# Altium schematic symbol library WCAP-PT5H.SchLib: 25 symbols
Pins are listed as number, name and electrical type; pins without a type are passive.

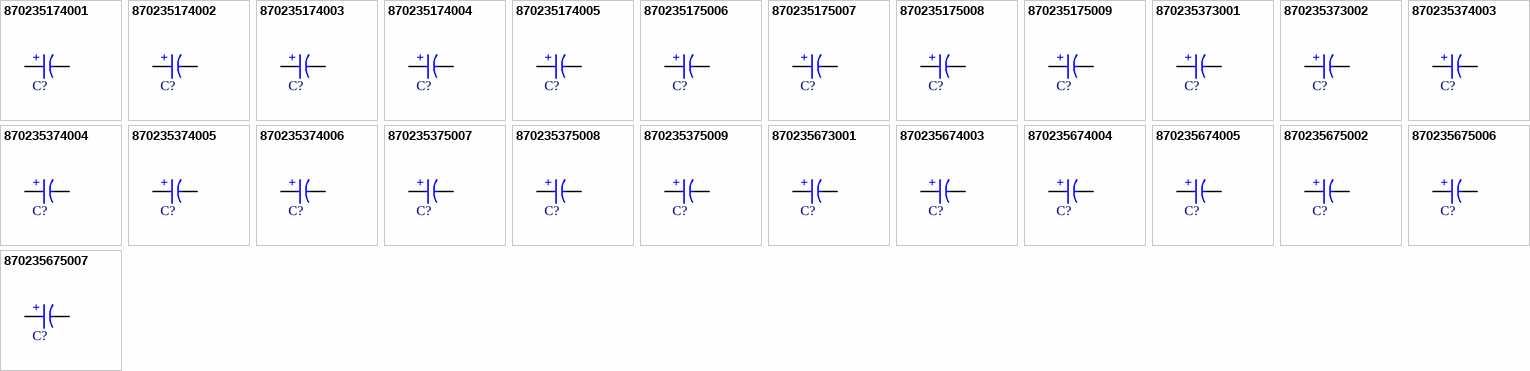
[diagram p0: symbols 870235174001 to 870235675007]

## 870235174001
designator C?, comment 390µF  (value not drawn)
WCAP-PT5H Aluminum Polymer Capacitor, Radial THT, D8 x H8mm, 390µF, 6.3V; Manufacturer Part Number: 870235174001; Manufacturer: Wurth Elektronik; Capacitance Tolerance: +/-20%; Dissipation Factor: 8%; Endurance: 5000h; ESR: 7mΩ; Leakage Current: 491.4µA; Ripple Current: 6100mA; Technical Reference: PTEE080391M6R3DSPA7E000; Category: Aluminum Polymer Capacitors; Match Code: WCAP-PT5H; ComponentLink1Description: Website Link; ComponentLink1URL: https://www.we-online.com/redexpert/article/870235174001?ad; ComponentLink2Description: Datasheet Link; ComponentLink2URL: https://www.we-online.com/redexpert/spec/870235174001?ad; Mount: Through Hole; Operating Temperature Max: 105°C; Operating Temperature Min: -55°C; Packaging: Ammo Pack; Height: 8mm; Diameter: 8mm; Capacitance: 390µF; Rated Voltage (DC): 6.3V
footprint WCAP-PT5H_D8H8
simulation model 870235174001_390uF
pins: 1 P, 2 N
text: +

## 870235174002
designator C?, comment 470µF  (value not drawn)
WCAP-PT5H Aluminum Polymer Capacitor, Radial THT, D8 x H8mm, 470µF, 6.3V; Manufacturer Part Number: 870235174002; Manufacturer: Wurth Elektronik; Capacitance Tolerance: +/-20%; Dissipation Factor: 8%; Endurance: 5000h; ESR: 7mΩ; Leakage Current: 592µA; Ripple Current: 6100mA; Technical Reference: PTEE080471M6R3DSPA7E000; Category: Aluminum Polymer Capacitors; Match Code: WCAP-PT5H; ComponentLink1Description: Website Link; ComponentLink1URL: https://www.we-online.com/redexpert/article/870235174002?ad; ComponentLink2Description: Datasheet Link; ComponentLink2URL: https://www.we-online.com/redexpert/spec/870235174002?ad; Mount: Through Hole; Operating Temperature Max: 105°C; Operating Temperature Min: -55°C; Packaging: Ammo Pack; Height: 8mm; Diameter: 8mm; Capacitance: 470µF; Rated Voltage (DC): 6.3V
footprint WCAP-PT5H_D8H8
simulation model 870235174002_470uF
pins: 1 P, 2 N
text: +

## 870235174003
designator C?, comment 560µF  (value not drawn)
WCAP-PT5H Aluminum Polymer Capacitor, Radial THT, D8 x H8mm, 560µF, 6.3V; Manufacturer Part Number: 870235174003; Manufacturer: Wurth Elektronik; Capacitance Tolerance: +/-20%; Dissipation Factor: 8%; Endurance: 5000h; ESR: 7mΩ; Leakage Current: 705.6µA; Ripple Current: 6100mA; Technical Reference: PTEE080561M6R3DSPA7E000; Category: Aluminum Polymer Capacitors; Match Code: WCAP-PT5H; ComponentLink1Description: Website Link; ComponentLink1URL: https://www.we-online.com/redexpert/article/870235174003?ad; ComponentLink2Description: Datasheet Link; ComponentLink2URL: https://www.we-online.com/redexpert/spec/870235174003?ad; Mount: Through Hole; Operating Temperature Max: 105°C; Operating Temperature Min: -55°C; Packaging: Ammo Pack; Height: 8mm; Diameter: 8mm; Capacitance: 560µF; Rated Voltage (DC): 6.3V
footprint WCAP-PT5H_D8H8
simulation model 870235174003_560uF
pins: 1 P, 2 N
text: +

## 870235174004
designator C?, comment 680µF  (value not drawn)
WCAP-PT5H Aluminum Polymer Capacitor, Radial THT, D8 x H11.5mm, 680µF, 6.3V; Manufacturer Part Number: 870235174004; Manufacturer: Wurth Elektronik; Capacitance Tolerance: +/-20%; Dissipation Factor: 8%; Endurance: 5000h; ESR: 7mΩ; Leakage Current: 428µA; Ripple Current: 6100mA; Technical Reference: PTEE115681M6R3DSPA7E000; Category: Aluminum Polymer Capacitors; Match Code: WCAP-PT5H; ComponentLink1Description: Website Link; ComponentLink1URL: https://www.we-online.com/redexpert/article/870235174004?ad; ComponentLink2Description: Datasheet Link; ComponentLink2URL: https://www.we-online.com/redexpert/spec/870235174004?ad; Mount: Through Hole; Operating Temperature Max: 105°C; Operating Temperature Min: -55°C; Packaging: Ammo Pack; Height: 11.5mm; Diameter: 8mm; Capacitance: 680µF; Rated Voltage (DC): 6.3V
footprint WCAP-PT5H_D8H11.5
simulation model 870235174004_680uF
pins: 1 P, 2 N
text: +

## 870235174005
designator C?, comment 820µF  (value not drawn)
WCAP-PT5H Aluminum Polymer Capacitor, Radial THT, D8 x H11.5mm, 820µF, 6.3V; Manufacturer Part Number: 870235174005; Manufacturer: Wurth Elektronik; Capacitance Tolerance: +/-20%; Dissipation Factor: 10%; Endurance: 5000h; ESR: 7mΩ; Leakage Current: 516.6µA; Ripple Current: 6100mA; Technical Reference: PTEE115821M6R3DSPA7E000; Category: Aluminum Polymer Capacitors; Match Code: WCAP-PT5H; ComponentLink1Description: Website Link; ComponentLink1URL: https://www.we-online.com/redexpert/article/870235174005?ad; ComponentLink2Description: Datasheet Link; ComponentLink2URL: https://www.we-online.com/redexpert/spec/870235174005?ad; Mount: Through Hole; Operating Temperature Max: 105°C; Operating Temperature Min: -55°C; Packaging: Ammo Pack; Height: 11.5mm; Diameter: 8mm; Capacitance: 820µF; Rated Voltage (DC): 6.3V
footprint WCAP-PT5H_D8H11.5
simulation model 870235174005_820uF
pins: 1 P, 2 N
text: +

## 870235175006
designator C?, comment 1000µF  (value not drawn)
WCAP-PT5H Aluminum Polymer Capacitor, Radial THT, D10 x H12.5mm, 1000µF, 6.3V; Manufacturer Part Number: 870235175006; Manufacturer: Wurth Elektronik; Capacitance Tolerance: +/-20%; Dissipation Factor: 10%; Endurance: 5000h; ESR: 7mΩ; Leakage Current: 630µA; Ripple Current: 6640mA; Technical Reference: PTEF125102M6R3DSPA9E000; Category: Aluminum Polymer Capacitors; Match Code: WCAP-PT5H; ComponentLink1Description: Website Link; ComponentLink1URL: https://www.we-online.com/redexpert/article/870235175006?ad; ComponentLink2Description: Datasheet Link; ComponentLink2URL: https://www.we-online.com/redexpert/spec/870235175006?ad; Mount: Through Hole; Operating Temperature Max: 105°C; Operating Temperature Min: -55°C; Packaging: Ammo Pack; Height: 12.5mm; Diameter: 10mm; Capacitance: 1000µF; Rated Voltage (DC): 6.3V
footprint WCAP-PT5H_D10H12.5
simulation model 870235175006_1mF
pins: 1 P, 2 N
text: +

## 870235175007
designator C?, comment 1200µF  (value not drawn)
WCAP-PT5H Aluminum Polymer Capacitor, Radial THT, D10 x H12.5mm, 1200µF, 6.3V; Manufacturer Part Number: 870235175007; Manufacturer: Wurth Elektronik; Capacitance Tolerance: +/-20%; Dissipation Factor: 10%; Endurance: 5000h; ESR: 7mΩ; Leakage Current: 756µA; Ripple Current: 6640mA; Technical Reference: PTEF125122M6R3DSPA9E000; Category: Aluminum Polymer Capacitors; Match Code: WCAP-PT5H; ComponentLink1Description: Website Link; ComponentLink1URL: https://www.we-online.com/redexpert/article/870235175007?ad; ComponentLink2Description: Datasheet Link; ComponentLink2URL: https://www.we-online.com/redexpert/spec/870235175007?ad; Mount: Through Hole; Operating Temperature Max: 105°C; Operating Temperature Min: -55°C; Packaging: Ammo Pack; Height: 12.5mm; Diameter: 10mm; Capacitance: 1200µF; Rated Voltage (DC): 6.3V
footprint WCAP-PT5H_D10H12.5
simulation model 870235175007_1.2mF
pins: 1 P, 2 N
text: +

## 870235175008
designator C?, comment 1500µF  (value not drawn)
WCAP-PT5H Aluminum Polymer Capacitor, Radial THT, D10 x H12.5mm, 1500µF, 6.3V; Manufacturer Part Number: 870235175008; Manufacturer: Wurth Elektronik; Capacitance Tolerance: +/-20%; Dissipation Factor: 10%; Endurance: 5000h; ESR: 7mΩ; Leakage Current: 945µA; Ripple Current: 6640mA; Technical Reference: PTEF125152M6R3DSPA9E000; Category: Aluminum Polymer Capacitors; Match Code: WCAP-PT5H; ComponentLink1Description: Website Link; ComponentLink1URL: https://www.we-online.com/redexpert/article/870235175008?ad; ComponentLink2Description: Datasheet Link; ComponentLink2URL: https://www.we-online.com/redexpert/spec/870235175008?ad; Mount: Through Hole; Operating Temperature Max: 105°C; Operating Temperature Min: -55°C; Packaging: Ammo Pack; Height: 12.5mm; Diameter: 10mm; Capacitance: 1500µF; Rated Voltage (DC): 6.3V
footprint WCAP-PT5H_D10H12.5
simulation model 870235175008_1.5mF
pins: 1 P, 2 N
text: +

## 870235175009
designator C?, comment 2000µF  (value not drawn)
WCAP-PT5H Aluminum Polymer Capacitor, Radial THT, D10 x H12.5mm, 2000µF, 6.3V; Manufacturer Part Number: 870235175009; Manufacturer: Wurth Elektronik; Capacitance Tolerance: +/-20%; Dissipation Factor: 10%; Endurance: 5000h; ESR: 7mΩ; Leakage Current: 1260µA; Ripple Current: 6640mA; Technical Reference: PTEF125202M6R3DSPA9E000; Category: Aluminum Polymer Capacitors; Match Code: WCAP-PT5H; ComponentLink1Description: Website Link; ComponentLink1URL: https://www.we-online.com/redexpert/article/870235175009?ad; ComponentLink2Description: Datasheet Link; ComponentLink2URL: https://www.we-online.com/redexpert/spec/870235175009?ad; Mount: Through Hole; Operating Temperature Max: 105°C; Operating Temperature Min: -55°C; Packaging: Ammo Pack; Height: 12.5mm; Diameter: 10mm; Capacitance: 2000µF; Rated Voltage (DC): 6.3V
footprint WCAP-PT5H_D10H12.5
simulation model 870235175009_2mF
pins: 1 P, 2 N
text: +

## 870235373001
designator C?, comment 100µF  (value not drawn)
WCAP-PT5H Aluminum Polymer Capacitor, Radial THT, D6.3 x H11mm, 100µF, 16V; Manufacturer Part Number: 870235373001; Manufacturer: Wurth Elektronik; Capacitance Tolerance: +/-20%; Dissipation Factor: 8%; Endurance: 5000h; ESR: 12mΩ; Leakage Current: 160µA; Ripple Current: 4800mA; Technical Reference: PTED110101M016DSPA4E000; Category: Aluminum Polymer Capacitors; Match Code: WCAP-PT5H; ComponentLink1Description: Website Link; ComponentLink1URL: https://www.we-online.com/redexpert/article/870235373001?ad; ComponentLink2Description: Datasheet Link; ComponentLink2URL: https://www.we-online.com/redexpert/spec/870235373001?ad; Mount: Through Hole; Operating Temperature Max: 105°C; Operating Temperature Min: -55°C; Packaging: Ammo Pack; Height: 11mm; Diameter: 6.3mm; Capacitance: 100µF; Rated Voltage (DC): 16V
footprint WCAP-PT5H_D6.3H11
simulation model 870235373001_100uF
pins: 1 P, 2 N
text: +

## 870235373002
designator C?, comment 180µF  (value not drawn)
WCAP-PT5H Aluminum Polymer Capacitor, Radial THT, D6.3 x H11mm, 180µF, 16V; Manufacturer Part Number: 870235373002; Manufacturer: Wurth Elektronik; Capacitance Tolerance: +/-20%; Dissipation Factor: 8%; Endurance: 5000h; ESR: 9mΩ; Leakage Current: 288µA; Ripple Current: 5600mA; Technical Reference: PTED110181M016DSPA4E000; Category: Aluminum Polymer Capacitors; Match Code: WCAP-PT5H; ComponentLink1Description: Website Link; ComponentLink1URL: https://www.we-online.com/redexpert/article/870235373002?ad; ComponentLink2Description: Datasheet Link; ComponentLink2URL: https://www.we-online.com/redexpert/spec/870235373002?ad; Mount: Through Hole; Operating Temperature Max: 105°C; Operating Temperature Min: -55°C; Packaging: Ammo Pack; Height: 11mm; Diameter: 6.3mm; Capacitance: 180µF; Rated Voltage (DC): 16V
footprint WCAP-PT5H_D6.3H11
simulation model 870235373002_180uF
pins: 1 P, 2 N
text: +

## 870235374003
designator C?, comment 180µF  (value not drawn)
WCAP-PT5H Aluminum Polymer Capacitor, Radial THT, D8 x H8mm, 180µF, 16V; Manufacturer Part Number: 870235374003; Manufacturer: Wurth Elektronik; Capacitance Tolerance: +/-20%; Dissipation Factor: 8%; Endurance: 5000h; ESR: 10mΩ; Leakage Current: 288µA; Ripple Current: 5100mA; Technical Reference: PTEE080181M016DSPA7E000; Category: Aluminum Polymer Capacitors; Match Code: WCAP-PT5H; ComponentLink1Description: Website Link; ComponentLink1URL: https://www.we-online.com/redexpert/article/870235374003?ad; ComponentLink2Description: Datasheet Link; ComponentLink2URL: https://www.we-online.com/redexpert/spec/870235374003?ad; Mount: Through Hole; Operating Temperature Max: 105°C; Operating Temperature Min: -55°C; Packaging: Ammo Pack; Height: 8mm; Diameter: 8mm; Capacitance: 180µF; Rated Voltage (DC): 16V
footprint WCAP-PT5H_D8H8
simulation model 870235374003_180uF
pins: 1 P, 2 N
text: +

## 870235374004
designator C?, comment 220µF  (value not drawn)
WCAP-PT5H Aluminum Polymer Capacitor, Radial THT, D8 x H8mm, 220µF, 16V; Manufacturer Part Number: 870235374004; Manufacturer: Wurth Elektronik; Capacitance Tolerance: +/-20%; Dissipation Factor: 8%; Endurance: 5000h; ESR: 10mΩ; Leakage Current: 352µA; Ripple Current: 5100mA; Technical Reference: PTEE080221M016DSPA7E000; Category: Aluminum Polymer Capacitors; Match Code: WCAP-PT5H; ComponentLink1Description: Website Link; ComponentLink1URL: https://www.we-online.com/redexpert/article/870235374004?ad; ComponentLink2Description: Datasheet Link; ComponentLink2URL: https://www.we-online.com/redexpert/spec/870235374004?ad; Mount: Through Hole; Operating Temperature Max: 105°C; Operating Temperature Min: -55°C; Packaging: Ammo Pack; Height: 8mm; Diameter: 8mm; Capacitance: 220µF; Rated Voltage (DC): 16V
footprint WCAP-PT5H_D8H8
simulation model 870235374004_220uF
pins: 1 P, 2 N
text: +

## 870235374005
designator C?, comment 270µF  (value not drawn)
WCAP-PT5H Aluminum Polymer Capacitor, Radial THT, D8 x H8mm, 270µF, 16V; Manufacturer Part Number: 870235374005; Manufacturer: Wurth Elektronik; Capacitance Tolerance: +/-20%; Dissipation Factor: 8%; Endurance: 5000h; ESR: 10mΩ; Leakage Current: 432µA; Ripple Current: 5100mA; Technical Reference: PTEE080271M016DSPA7E000; Category: Aluminum Polymer Capacitors; Match Code: WCAP-PT5H; ComponentLink1Description: Website Link; ComponentLink1URL: https://www.we-online.com/redexpert/article/870235374005?ad; ComponentLink2Description: Datasheet Link; ComponentLink2URL: https://www.we-online.com/redexpert/spec/870235374005?ad; Mount: Through Hole; Operating Temperature Max: 105°C; Operating Temperature Min: -55°C; Packaging: Ammo Pack; Height: 8mm; Diameter: 8mm; Capacitance: 270µF; Rated Voltage (DC): 16V
footprint WCAP-PT5H_D8H8
simulation model 870235374005_270uF
pins: 1 P, 2 N
text: +

## 870235374006
designator C?, comment 330µF  (value not drawn)
WCAP-PT5H Aluminum Polymer Capacitor, Radial THT, D8 x H11.5mm, 330µF, 16V; Manufacturer Part Number: 870235374006; Manufacturer: Wurth Elektronik; Capacitance Tolerance: +/-20%; Dissipation Factor: 8%; Endurance: 5000h; ESR: 9mΩ; Leakage Current: 528µA; Ripple Current: 5600mA; Technical Reference: PTEE115331M016DSPA7E000; Category: Aluminum Polymer Capacitors; Match Code: WCAP-PT5H; ComponentLink1Description: Website Link; ComponentLink1URL: https://www.we-online.com/redexpert/article/870235374006?ad; ComponentLink2Description: Datasheet Link; ComponentLink2URL: https://www.we-online.com/redexpert/spec/870235374006?ad; Mount: Through Hole; Operating Temperature Max: 105°C; Operating Temperature Min: -55°C; Packaging: Ammo Pack; Height: 11.5mm; Diameter: 8mm; Capacitance: 330µF; Rated Voltage (DC): 16V
footprint WCAP-PT5H_D8H11.5
simulation model 870235374006_330uF
pins: 1 P, 2 N
text: +

## 870235375007
designator C?, comment 390µF  (value not drawn)
WCAP-PT5H Aluminum Polymer Capacitor, Radial THT, D10 x H12.5mm, 390µF, 16V; Manufacturer Part Number: 870235375007; Manufacturer: Wurth Elektronik; Capacitance Tolerance: +/-20%; Dissipation Factor: 8%; Endurance: 5000h; ESR: 9mΩ; Leakage Current: 624µA; Ripple Current: 6100mA; Technical Reference: PTEF125391M016DSPA9E000; Category: Aluminum Polymer Capacitors; Match Code: WCAP-PT5H; ComponentLink1Description: Website Link; ComponentLink1URL: https://www.we-online.com/redexpert/article/870235375007?ad; ComponentLink2Description: Datasheet Link; ComponentLink2URL: https://www.we-online.com/redexpert/spec/870235375007?ad; Mount: Through Hole; Operating Temperature Max: 105°C; Operating Temperature Min: -55°C; Packaging: Ammo Pack; Height: 12.5mm; Diameter: 10mm; Capacitance: 390µF; Rated Voltage (DC): 16V
footprint WCAP-PT5H_D10H12.5
simulation model 870235375007_390uF
pins: 1 P, 2 N
text: +

## 870235375008
designator C?, comment 470µF  (value not drawn)
WCAP-PT5H Aluminum Polymer Capacitor, Radial THT, D10 x H12.5mm, 470µF, 16V; Manufacturer Part Number: 870235375008; Manufacturer: Wurth Elektronik; Capacitance Tolerance: +/-20%; Dissipation Factor: 10%; Endurance: 5000h; ESR: 9mΩ; Leakage Current: 752µA; Ripple Current: 6100mA; Technical Reference: PTEF125471M016DSPA9E000; Category: Aluminum Polymer Capacitors; Match Code: WCAP-PT5H; ComponentLink1Description: Website Link; ComponentLink1URL: https://www.we-online.com/redexpert/article/870235375008?ad; ComponentLink2Description: Datasheet Link; ComponentLink2URL: https://www.we-online.com/redexpert/spec/870235375008?ad; Mount: Through Hole; Operating Temperature Max: 105°C; Operating Temperature Min: -55°C; Packaging: Ammo Pack; Height: 12.5mm; Diameter: 10mm; Capacitance: 470µF; Rated Voltage (DC): 16V
footprint WCAP-PT5H_D10H12.5
simulation model 870235375008_470uF
pins: 1 P, 2 N
text: +

## 870235375009
designator C?, comment 560µF  (value not drawn)
WCAP-PT5H Aluminum Polymer Capacitor, Radial THT, D10 x H12.5mm, 560µF, 16V; Manufacturer Part Number: 870235375009; Manufacturer: Wurth Elektronik; Capacitance Tolerance: +/-20%; Dissipation Factor: 10%; Endurance: 5000h; ESR: 9mΩ; Leakage Current: 896µA; Ripple Current: 6100mA; Technical Reference: PTEF125561M016DSPA9E000; Category: Aluminum Polymer Capacitors; Match Code: WCAP-PT5H; ComponentLink1Description: Website Link; ComponentLink1URL: https://www.we-online.com/redexpert/article/870235375009?ad; ComponentLink2Description: Datasheet Link; ComponentLink2URL: https://www.we-online.com/redexpert/spec/870235375009?ad; Mount: Through Hole; Operating Temperature Max: 105°C; Operating Temperature Min: -55°C; Packaging: Ammo Pack; Height: 12.5mm; Diameter: 10mm; Capacitance: 560µF; Rated Voltage (DC): 16V
footprint WCAP-PT5H_D10H12.5
simulation model 870235375009_560uF
pins: 1 P, 2 N
text: +

## 870235673001
designator C?, comment 22µF  (value not drawn)
WCAP-PT5H Aluminum Polymer Capacitor, Radial THT, D6.3 x H5.2mm, 22µF, 35V; Manufacturer Part Number: 870235673001; Manufacturer: Wurth Elektronik; Capacitance Tolerance: +/-20%; Dissipation Factor: 12%; Endurance: 5000h; ESR: 35mΩ; Leakage Current: 300µA; Ripple Current: 2600mA; Technical Reference: PTED052220M035DSPA4E000; Category: Aluminum Polymer Capacitors; Match Code: WCAP-PT5H; ComponentLink1Description: Website Link; ComponentLink1URL: https://www.we-online.com/redexpert/article/870235673001?ad; ComponentLink2Description: Datasheet Link; ComponentLink2URL: https://www.we-online.com/redexpert/spec/870235673001?ad; Mount: Through Hole; Operating Temperature Max: 105°C; Operating Temperature Min: -55°C; Packaging: Ammo Pack; Height: 5.2mm; Diameter: 6.3mm; Capacitance: 22µF; Rated Voltage (DC): 35V
footprint WCAP-PT5H_D6.3H5.2
simulation model 870235673001_22uF
pins: 1 P, 2 N
text: +

## 870235674003
designator C?, comment 39µF  (value not drawn)
WCAP-PT5H Aluminum Polymer Capacitor, Radial THT, D8 x H7mm, 39µF, 35V; Manufacturer Part Number: 870235674003; Manufacturer: Wurth Elektronik; Capacitance Tolerance: +/-20%; Dissipation Factor: 12%; Endurance: 5000h; ESR: 32mΩ; Leakage Current: 273µA; Ripple Current: 2800mA; Technical Reference: PTEE070390M035DSPA7E000; Category: Aluminum Polymer Capacitors; Match Code: WCAP-PT5H; ComponentLink1Description: Website Link; ComponentLink1URL: https://www.we-online.com/redexpert/article/870235674003?ad; ComponentLink2Description: Datasheet Link; ComponentLink2URL: https://www.we-online.com/redexpert/spec/870235674003?ad; Mount: Through Hole; Operating Temperature Max: 105°C; Operating Temperature Min: -55°C; Packaging: Ammo Pack; Height: 7mm; Diameter: 8mm; Capacitance: 39µF; Rated Voltage (DC): 35V
footprint WCAP-PT5H_D8H7
simulation model 870235674003_39uF
pins: 1 P, 2 N
text: +

## 870235674004
designator C?, comment 68µF  (value not drawn)
WCAP-PT5H Aluminum Polymer Capacitor, Radial THT, D8 x H11.5mm, 68µF, 35V; Manufacturer Part Number: 870235674004; Manufacturer: Wurth Elektronik; Capacitance Tolerance: +/-20%; Dissipation Factor: 12%; Endurance: 5000h; ESR: 20mΩ; Leakage Current: 476µA; Ripple Current: 3600mA; Technical Reference: PTEE115680M035DSPA7E000; Category: Aluminum Polymer Capacitors; Match Code: WCAP-PT5H; ComponentLink1Description: Website Link; ComponentLink1URL: https://www.we-online.com/redexpert/article/870235674004?ad; ComponentLink2Description: Datasheet Link; ComponentLink2URL: https://www.we-online.com/redexpert/spec/870235674004?ad; Mount: Through Hole; Operating Temperature Max: 105°C; Operating Temperature Min: -55°C; Packaging: Ammo Pack; Height: 11.5mm; Diameter: 8mm; Capacitance: 68µF; Rated Voltage (DC): 35V
footprint WCAP-PT5H_D8H11.5
simulation model 870235674004_68uF
pins: 1 P, 2 N
text: +

## 870235674005
designator C?, comment 82µF  (value not drawn)
WCAP-PT5H Aluminum Polymer Capacitor, Radial THT, D8 x H11.5mm, 82µF, 35V; Manufacturer Part Number: 870235674005; Manufacturer: Wurth Elektronik; Capacitance Tolerance: +/-20%; Dissipation Factor: 12%; Endurance: 5000h; ESR: 20mΩ; Leakage Current: 574µA; Ripple Current: 3600mA; Technical Reference: PTEE115820M035DSPA7E000; Category: Aluminum Polymer Capacitors; Match Code: WCAP-PT5H; ComponentLink1Description: Website Link; ComponentLink1URL: https://www.we-online.com/redexpert/article/870235674005?ad; ComponentLink2Description: Datasheet Link; ComponentLink2URL: https://www.we-online.com/redexpert/spec/870235674005?ad; Mount: Through Hole; Operating Temperature Max: 105°C; Operating Temperature Min: -55°C; Packaging: Ammo Pack; Height: 11.5mm; Diameter: 8mm; Capacitance: 82µF; Rated Voltage (DC): 35V
footprint WCAP-PT5H_D8H11.5
simulation model 870235674005_82uF
pins: 1 P, 2 N
text: +

## 870235675002
designator C?, comment 33µF  (value not drawn)
WCAP-PT5H Aluminum Polymer Capacitor, Radial THT, D10 x H12.5mm, 33µF, 35V; Manufacturer Part Number: 870235675002; Manufacturer: Wurth Elektronik; Capacitance Tolerance: +/-20%; Dissipation Factor: 12%; Endurance: 5000h; ESR: 25mΩ; Leakage Current: 231µA; Ripple Current: 3100mA; Technical Reference: PTEF125330M035DSPA9E000; Category: Aluminum Polymer Capacitors; Match Code: WCAP-PT5H; ComponentLink1Description: Website Link; ComponentLink1URL: https://www.we-online.com/redexpert/article/870235675002?ad; ComponentLink2Description: Datasheet Link; ComponentLink2URL: https://www.we-online.com/redexpert/spec/870235675002?ad; Mount: Through Hole; Operating Temperature Max: 105°C; Operating Temperature Min: -55°C; Packaging: Ammo Pack; Height: 12.5mm; Diameter: 10mm; Capacitance: 33µF; Rated Voltage (DC): 35V
footprint WCAP-PT5H_D10H12.5
simulation model 870235675002_33uF
pins: 1 P, 2 N
text: +

## 870235675006
designator C?, comment 120µF  (value not drawn)
WCAP-PT5H Aluminum Polymer Capacitor, Radial THT, D10 x H12.5mm, 120µF, 35V; Manufacturer Part Number: 870235675006; Manufacturer: Wurth Elektronik; Capacitance Tolerance: +/-20%; Dissipation Factor: 12%; Endurance: 5000h; ESR: 18mΩ; Leakage Current: 840µA; Ripple Current: 4000mA; Technical Reference: PTEF125121M035DSPA9E000; Category: Aluminum Polymer Capacitors; Match Code: WCAP-PT5H; ComponentLink1Description: Website Link; ComponentLink1URL: https://www.we-online.com/redexpert/article/870235675006?ad; ComponentLink2Description: Datasheet Link; ComponentLink2URL: https://www.we-online.com/redexpert/spec/870235675006?ad; Mount: Through Hole; Operating Temperature Max: 105°C; Operating Temperature Min: -55°C; Packaging: Ammo Pack; Height: 12.5mm; Diameter: 10mm; Capacitance: 120µF; Rated Voltage (DC): 35V
footprint WCAP-PT5H_D10H12.5
simulation model 870235675006_120uF
pins: 1 P, 2 N
text: +

## 870235675007
designator C?, comment 150µF  (value not drawn)
WCAP-PT5H Aluminum Polymer Capacitor, Radial THT, D10 x H12.5mm, 150µF, 35V; Manufacturer Part Number: 870235675007; Manufacturer: Wurth Elektronik; Capacitance Tolerance: +/-20%; Dissipation Factor: 12%; Endurance: 5000h; ESR: 18mΩ; Leakage Current: 1050µA; Ripple Current: 4000mA; Technical Reference: PTEF125151M035DSPA9E000; Category: Aluminum Polymer Capacitors; Match Code: WCAP-PT5H; ComponentLink1Description: Website Link; ComponentLink1URL: https://www.we-online.com/redexpert/article/870235675007?ad; ComponentLink2Description: Datasheet Link; ComponentLink2URL: https://www.we-online.com/redexpert/spec/870235675007?ad; Mount: Through Hole; Operating Temperature Max: 105°C; Operating Temperature Min: -55°C; Packaging: Ammo Pack; Height: 12.5mm; Diameter: 10mm; Capacitance: 150µF; Rated Voltage (DC): 35V
footprint WCAP-PT5H_D10H12.5
simulation model 870235675007_150uF
pins: 1 P, 2 N
text: +